# EAGLE library part BL652 (library laird-tech)
RF TXRX MOD BLUETOOTH CHIP ANT
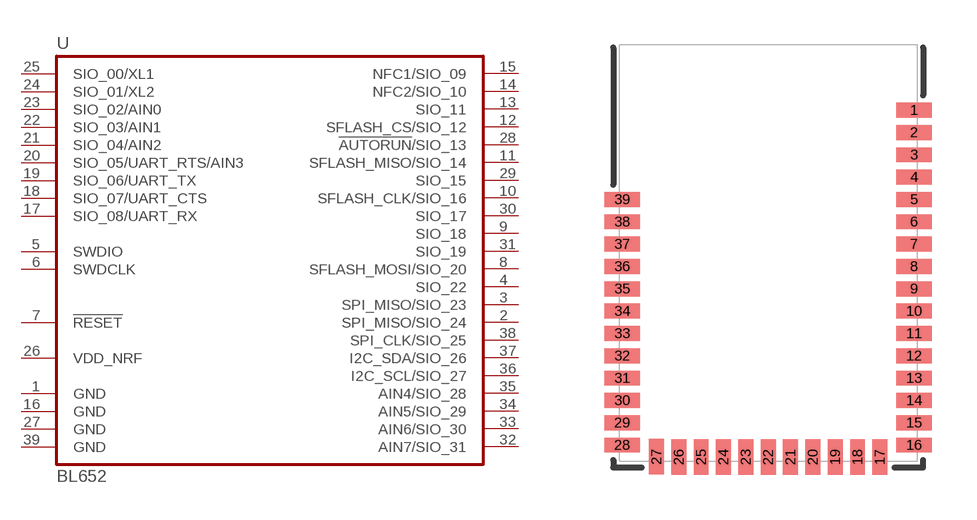
[diagram p0: symbol with the pads of BL652; footprint BL652]

Designator prefix U

## BL652  [BL652]
1  GND
2  SPI_MISO/SIO_24
3  SPI_MISO/SIO_23
4  SIO_22
5  SWDIO
6  SWDCLK
7  !RESET
8  SFLASH_MOSI/SIO_20
9  SIO_18
10  SFLASH_CLK/SIO_16
11  SFLASH_MISO/SIO_14
12  SFLASH_CS/SIO_12
13  SIO_11
14  NFC2/SIO_10
15  NFC1/SIO_09
16  GND
17  SIO_08/UART_RX
18  SIO_07/UART_CTS
19  SIO_06/UART_TX
20  SIO_05/UART_RTS/AIN3
21  SIO_04/AIN2
22  SIO_03/AIN1
23  SIO_02/AIN0
24  SIO_01/XL2
25  SIO_00/XL1
26  VDD_NRF
27  GND
28  !AUTORUN!/SIO_13
29  SIO_15
30  SIO_17
31  SIO_19
32  AIN7/SIO_31
33  AIN6/SIO_30
34  AIN5/SIO_29
35  AIN4/SIO_28
36  I2C_SCL/SIO_27
37  I2C_SDA/SIO_26
38  SPI_CLK/SIO_25
39  GND

## Footprint BL652 (pad centres in mm)
BLUETOOTH MOD W/CHIP ANT
smd 1.2 x 0.5: 1 4.9,11.8; 2 4.9,11.05; 3 4.9,10.3; 4 4.9,9.55; 5 4.9,8.8; 6 4.9,8.05; 7 4.9,7.3; 8 4.9,6.55; 9 4.9,5.8; 10 4.9,5.05; 11 4.9,4.3; 12 4.9,3.55; 13 4.9,2.8; 14 4.9,2.05; 15 4.9,1.3; 16 4.9,0.55; 28 -4.9,0.55; 29 -4.9,1.3; 30 -4.9,2.05; 31 -4.9,2.8; 32 -4.9,3.55; 33 -4.9,4.3; 34 -4.9,5.05; 35 -4.9,5.8; 36 -4.9,6.55; 37 -4.9,7.3; 38 -4.9,8.05; 39 -4.9,8.8
smd 0.5 x 1.2: 17 3.75,0.15; 18 3,0.15; 19 2.25,0.15; 20 1.5,0.15; 21 0.75,0.15; 22 0,0.15; 23 -0.75,0.15; 24 -1.5,0.15; 25 -2.25,0.15; 26 -3,0.15; 27 -3.75,0.163